# Altium footprint library CSP2-28_OV7725.PcbLib: 1 footprints
Each footprint in its own frame and in the unit in brackets; x right, y up, seen from the top. Pads: shape width x height; smd on the part's side, far side on the other; paste and mask are expansions set on the pad; w line width, h text height; cw(c..) or ccw(c..) is an arc to the next point about the centre after c.
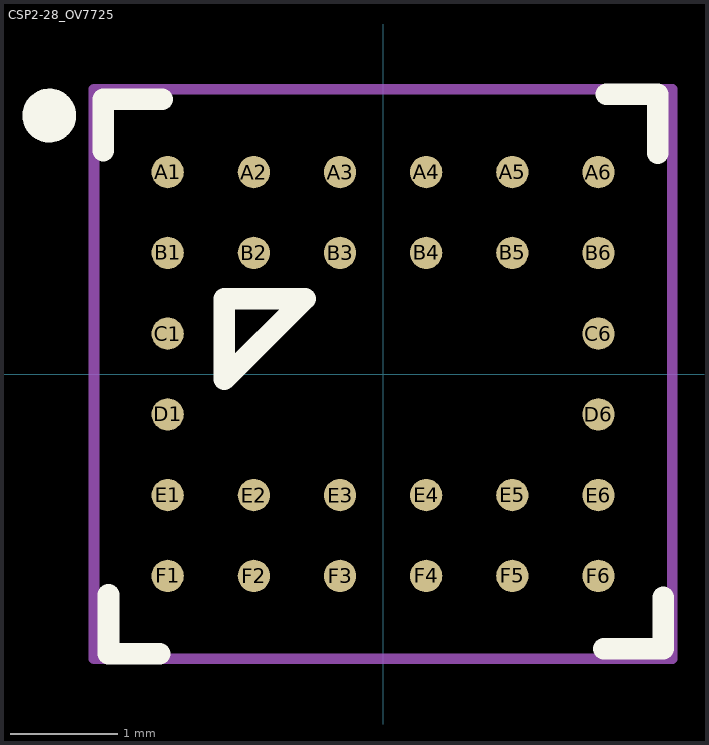
[diagram p0: the footprint, top view; thin cyan lines are the x and y axes]

## CSP2-28_OV7725 [mm]
pads (28):
  round 0.3 smd mask+0.051: A1(-2,1.875) A2(-1.2,1.875) A3(-0.4,1.875) A4(0.4,1.875) A5(1.2,1.875) A6(2,1.875) B1(-2,1.125) B2(-1.2,1.125) B3(-0.4,1.125) B4(0.4,1.125) B5(1.2,1.125) B6(2,1.125) C1(-2,0.375) C6(2,0.375) D1(-2,-0.375) D6(2,-0.375) E1(-2,-1.125) E2(-1.2,-1.125) E3(-0.4,-1.125) E4(0.4,-1.125) E5(1.2,-1.125) E6(2,-1.125) F1(-2,-1.875) F2(-1.2,-1.875) F3(-0.4,-1.875) F4(0.4,-1.875) F5(1.2,-1.875) F6(2,-1.875)
Top Overlay:
  circle w0.25: c-3.1,2.4 r0.125
  lines w0.2: -2.6,2.075 -2.6,2.55 -2.05,2.55 ; -2.55,-2.05 -2.55,-2.6 -2.075,-2.6 ; 2.05,-2.55 2.6,-2.55 2.6,-2.075 ; 2.075,2.6 2.55,2.6 2.55,2.05 ; -1.475,-0.05 -1.475,0.7 -0.725,0.7 -1.475,-0.05
Mechanical 13:
  lines w0.1: -2.685,-2.645 2.685,-2.645 2.685,2.645 -2.685,2.645 -2.685,-2.645